# EAGLE library part AOZ2255LQI-30 (library pimoroni-ics)
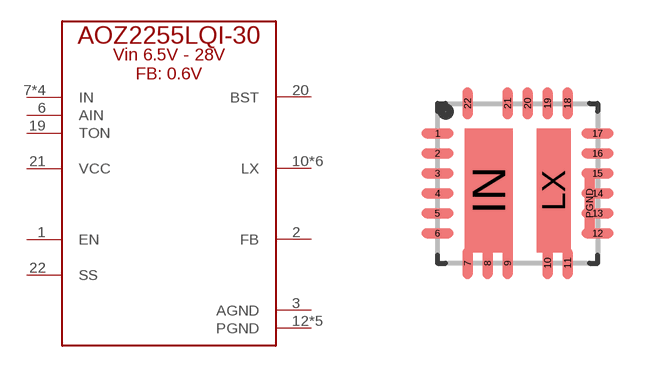
[diagram p133: symbol with the pads of QFN22-4X4-EP2; footprint QFN22-4X4-EP2]

Designator prefix U

## AOZ2255LQI-30  [QFN22-4X4-EP2]
1  EN
2  FB
3  AGND
6  AIN
7  IN
8  IN
9  IN
10  LX
11  LX
12  PGND
13  PGND
14  PGND
15  PGND
16  LX
17  LX
18  LX
19  TON
20  BST
21  VCC
22  SS
IN  IN
LX  LX
PGND  PGND

## Footprint QFN22-4X4-EP2 (pad centres in mm)
smd 0.8 x 0.25: 1 -2,1.25; 2 -2,0.75; 3 -2,0.25; 4 -2,-0.25; 5 -2,-0.75; 6 -2,-1.25; 12 2,-1.25; 13 2,-0.75; 14 2,-0.25; 15 2,0.25; 16 2,0.75; 17 2,1.25
smd 0.25 x 0.8: 7 -1.25,-2; 8 -0.75,-2; 9 -0.25,-2; 10 0.75,-2; 11 1.25,-2; 18 1.25,2; 19 0.75,2; 20 0.25,2; 21 -0.25,2; 22 -1.25,2
smd 1.2 x 3.1: IN -0.725,-0.175
smd 0.85 x 3.1: LX 0.9,-0.175
smd 0.25 x 1.7: PGND 1.8,-0.5